# Altium footprint library PLCC.PcbLib: 4 footprints
Each footprint in its own frame and in the unit in brackets; x right, y up, seen from the top. Pads: shape width x height; smd on the part's side, far side on the other; paste and mask are expansions set on the pad; w line width, h text height; cw(c..) or ccw(c..) is an arc to the next point about the centre after c.
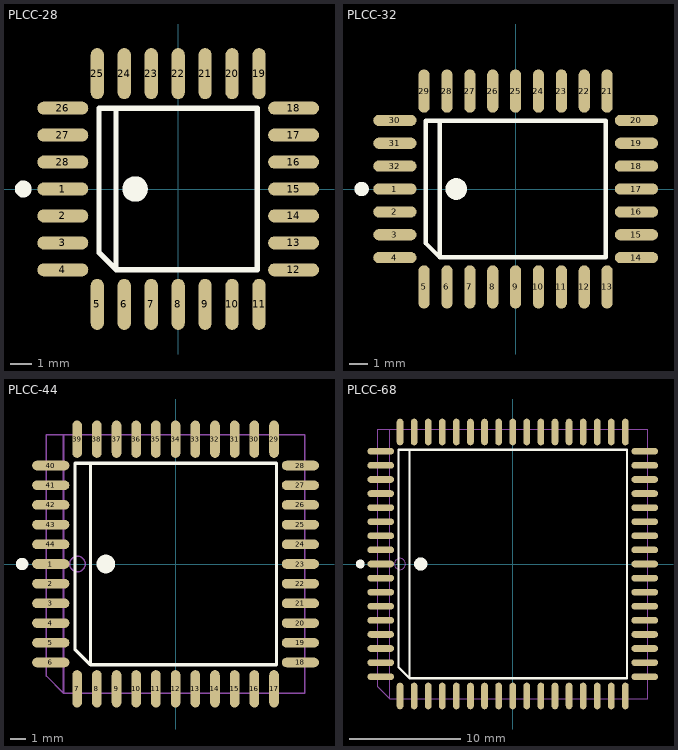
[diagram p0: the footprints below, top view; thin cyan lines are the x and y axes]

## PLCC-28 [mm]
pads (28):
  oval 2.4x0.62 smd: 1(-5.435,0) 2(-5.435,-1.27) 3(-5.435,-2.54) 4(-5.435,-3.81) 12(5.435,-3.81) 13(5.435,-2.54) 14(5.435,-1.27) 15(5.435,0) 16(5.435,1.27) 17(5.435,2.54) 18(5.435,3.81) 26(-5.435,3.81) 27(-5.435,2.54) 28(-5.435,1.27)
  oval 0.62x2.4 smd: 5(-3.81,-5.435) 6(-2.54,-5.435) 7(-1.27,-5.435) 8(0,-5.435) 9(1.27,-5.435) 10(2.54,-5.435) 11(3.81,-5.435) 19(3.81,5.435) 20(2.54,5.435) 21(1.27,5.435) 22(0,5.435) 23(-1.27,5.435) 24(-2.54,5.435) 25(-3.81,5.435)
Top Overlay:
  circle w0.6: c-2.03,0 r0.3
  circle w0.4: c-7.3,0 r0.2
  lines w0.254: -2.93,3.8 -2.93,-3.8 ; -2.93,-3.8 3.73,-3.8 3.73,3.8 -3.73,3.8 -3.73,-3 -2.93,-3.8

## PLCC-32 [mm]
pads (32):
  oval 2.4x0.62 smd: 1(-6.705,0) 2(-6.705,-1.27) 3(-6.705,-2.54) 4(-6.705,-3.81) 14(6.705,-3.81) 15(6.705,-2.54) 16(6.705,-1.27) 17(6.705,0) 18(6.705,1.27) 19(6.705,2.54) 20(6.705,3.81) 30(-6.705,3.81) 31(-6.705,2.54) 32(-6.705,1.27)
  oval 0.62x2.4 smd: 5(-5.08,-5.435) 6(-3.81,-5.435) 7(-2.54,-5.435) 8(-1.27,-5.435) 9(0,-5.435) 10(1.27,-5.435) 11(2.54,-5.435) 12(3.81,-5.435) 13(5.08,-5.435) 21(5.08,5.435) 22(3.81,5.435) 23(2.54,5.435) 24(1.27,5.435) 25(0,5.435) 26(-1.27,5.435) 27(-2.54,5.435) 28(-3.81,5.435) 29(-5.08,5.435)
Top Overlay:
  circle w0.4: c-8.55,0 r0.2
  circle w0.6: c-3.3,0 r0.3
  lines w0.254: -4.2,3.8 -4.2,-3.8 ; -4.2,-3.8 5,-3.8 5,3.8 -5,3.8 -5,-3 -4.2,-3.8

## PLCC-44 [mm]
pads (44):
  oval 2.4x0.62 smd: 1(-8.05,0) 2(-8.05,-1.27) 3(-8.05,-2.54) 4(-8.05,-3.81) 5(-8.05,-5.08) 6(-8.05,-6.35) 18(8.05,-6.35) 19(8.05,-5.08) 20(8.05,-3.81) 21(8.05,-2.54) 22(8.05,-1.27) 23(8.05,0) 24(8.05,1.27) 25(8.05,2.54) 26(8.05,3.81) 27(8.05,5.08) 28(8.05,6.35) 40(-8.05,6.35) 41(-8.05,5.08) 42(-8.05,3.81) 43(-8.05,2.54) 44(-8.05,1.27)
  oval 0.62x2.4 smd: 7(-6.35,-8.05) 8(-5.08,-8.05) 9(-3.81,-8.05) 10(-2.54,-8.05) 11(-1.27,-8.05) 12(0,-8.05) 13(1.27,-8.05) 14(2.54,-8.05) 15(3.81,-8.05) 16(5.08,-8.05) 17(6.35,-8.05) 29(6.35,8.05) 30(5.08,8.05) 31(3.81,8.05) 32(2.54,8.05) 33(1.27,8.05) 34(0,8.05) 35(-1.27,8.05) 36(-2.54,8.05) 37(-3.81,8.05) 38(-5.08,8.05) 39(-6.35,8.05)
Top Overlay:
  circle w0.6: c-4.5,0 r0.3
  circle w0.4: c-9.9,0 r0.2
  lines w0.2: -5.5,6.5 -5.5,-6.5 ; -5.5,-6.5 6.5,-6.5 6.5,6.5 -6.5,6.5 -6.5,-5.5 -5.5,-6.5
Mechanical 13:
  circle w0.1: c-6.33,0 r0.5
  lines w0.1: -7.23,8.33 -7.23,-8.33 ; -7.23,-8.33 -8.33,-7.23 -8.33,8.33 8.33,8.33 8.33,-8.33 -7.23,-8.33

## PLCC-68 [mm]
pads (68):
  oval 2.4x0.6 smd: 1(-11.9,0) 2(-11.9,-1.27) 3(-11.9,-2.54) 4(-11.9,-3.81) 5(-11.9,-5.08) 6(-11.9,-6.35) 7(-11.9,-7.62) 8(-11.9,-8.89) 9(-11.9,-10.16) 27(11.9,-10.16) 28(11.9,-8.89) 29(11.9,-7.62) 30(11.9,-6.35) 31(11.9,-5.08) 32(11.9,-3.81) 33(11.9,-2.54) 34(11.9,-1.27) 35(11.9,0) 36(11.9,1.27) 37(11.9,2.54) 38(11.9,3.81) 39(11.9,5.08) 40(11.9,6.35) 41(11.9,7.62) 42(11.9,8.89) 43(11.9,10.16) 61(-11.9,10.16) 62(-11.9,8.89) 63(-11.9,7.62) 64(-11.9,6.35) 65(-11.9,5.08) 66(-11.9,3.81) 67(-11.9,2.54) 68(-11.9,1.27)
  oval 0.6x2.4 smd: 10(-10.16,-11.9) 11(-8.89,-11.9) 12(-7.62,-11.9) 13(-6.35,-11.9) 14(-5.08,-11.9) 15(-3.81,-11.9) 16(-2.54,-11.9) 17(-1.27,-11.9) 18(0,-11.9) 19(1.27,-11.9) 20(2.54,-11.9) 21(3.81,-11.9) 22(5.08,-11.9) 23(6.35,-11.9) 24(7.62,-11.9) 25(8.89,-11.9) 26(10.16,-11.9) 44(10.16,11.9) 45(8.89,11.9) 46(7.62,11.9) 47(6.35,11.9) 48(5.08,11.9) 49(3.81,11.9) 50(2.54,11.9) 51(1.27,11.9) 52(0,11.9) 53(-1.27,11.9) 54(-2.54,11.9) 55(-3.81,11.9) 56(-5.08,11.9) 57(-6.35,11.9) 58(-7.62,11.9) 59(-8.89,11.9) 60(-10.16,11.9)
Top Overlay:
  circle w0.6: c-8.3,0 r0.3
  circle w0.4: c-13.75,0 r0.2
  lines w0.2: -9.3,10.3 -9.3,-10.3 ; -9.3,-10.3 -10.3,-9.3 -10.3,10.3 10.3,10.3 10.3,-10.3 -9.3,-10.3
Mechanical 13:
  circle w0.1: c-10.165,0 r0.5
  lines w0.1: -11.065,12.165 -11.065,-12.165 ; -11.065,-12.165 12.165,-12.165 12.165,12.165 -12.165,12.165 -12.165,-11.065 -11.065,-12.165